# Altium schematic symbol library LM2587.SchLib: 1 symbol
Pins are listed as number, name and electrical type; pins without a type are passive.

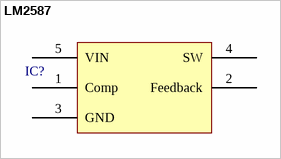
[diagram p0: symbol LM2587]

## LM2587
designator IC?
Boost
footprint D2PAK
pins: 1 Comp, 2 Feedback, 3 GND, 4 SW, 5 VIN